# EAGLE library part WE-RJ45_10/100_BASETX_7499011610 (library Wuerth_Elektronik_eiSos_ v6.5)
WE-LAN RJ45 Integrated 10/100 Base-TX Magnetics Connector - RJ45 connector with integrated transformer common mode choke - 350 µH min.OCL with 8 mA bias - Complies with IEEE 802.3 - Extended temperature range from -40°C to +85°C available -- ADSL Modem -- Embedded PC -- LAN network applications -- Hub, Router, Switches
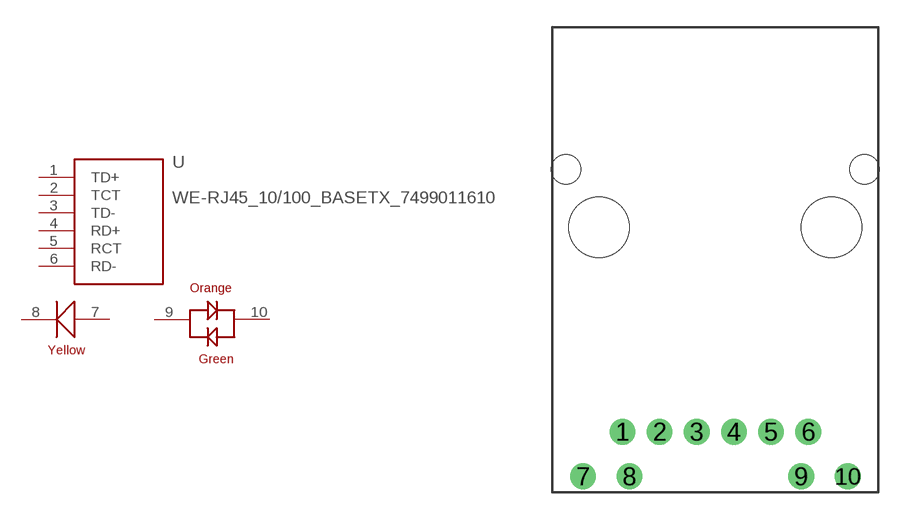
[diagram p63: symbol with the pads of WE-RJ45_10/100_BASETX_7499011610; footprint WE-RJ45_10/100_BASETX_7499011610]

Designator prefix -

## WE-RJ45_10/100_BASETX_7499011610_7499011610  [WE-RJ45_10/100_BASETX_7499011610]
1  TD+  pas
2  TCT  pas
3  TD-  pas
4  RD+  pas
5  RCT  pas
6  RD-  pas
7  7  pas
8  8  pas
9  9  pas
10  10  pas

## Footprint WE-RJ45_10/100_BASETX_7499011610 (pad centres in mm)
WE-LAN RJ45 Integrated 10/100 Base-TX Magnetics Connector
drill 0.9 round: 1 -5.075,0; 2 -3.045,0; 3 -1.015,0; 4 1.015,0; 5 3.045,0; 6 5.075,0; 7 -7.23,-2.44; 8 -4.69,-2.44; 9 4.69,-2.44; 10 7.23,-2.44
hole 1.6 at 8.15,14.35
hole 1.6 at -8.15,14.35
hole 3.3 at 6.35,11.17
hole 3.3 at -6.35,11.17